# Altium footprint library MOLEX_43650-0600.PcbLib: 1 footprints
Each footprint in its own frame and in the unit in brackets; x right, y up, seen from the top. Pads: shape width x height; smd on the part's side, far side on the other; paste and mask are expansions set on the pad; w line width, h text height; cw(c..) or ccw(c..) is an arc to the next point about the centre after c.
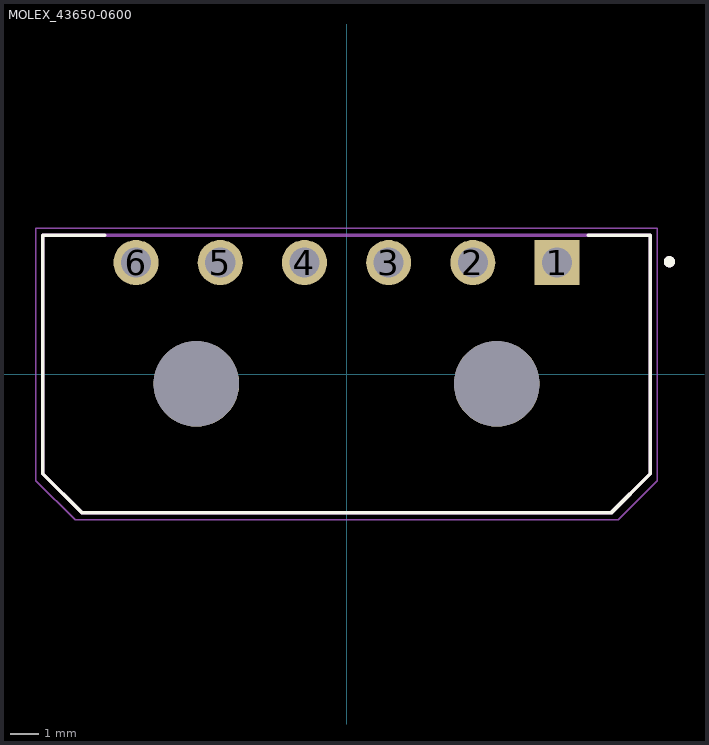
[diagram p0: the footprint, top view; thin cyan lines are the x and y axes]

## MOLEX_43650-0600 [mm]
pads (8):
  rect 1.605x1.605 hole 1.07: 1(7.5,3.97)
  round 1.605 hole 1.07: 2(4.5,3.97) 3(1.5,3.97) 4(-1.5,3.97) 5(-4.5,3.97) 6(-7.5,3.97)
  round 3.05 hole 3.05 unplated: ""(-5.35,-0.35) ""(5.35,-0.35)
Top Overlay:
  circle w0.2: c11.5,4 r0.1
  lines w0.127: -8.62,4.95 -10.82,4.95 -10.82,-3.55 -9.42,-4.95 9.42,-4.95 10.82,-3.55 10.82,4.95 8.62,4.95
Mechanical 13:
  circle w0.2: c11.5,4 r0.1
  lines w0.127: -10.82,-3.55 -10.82,4.95 10.82,4.95 10.82,-3.55 9.42,-4.95 -9.42,-4.95 -10.82,-3.55
Mechanical 15:
  lines w0.05: -11.07,-3.8 -11.07,5.2 11.07,5.2 11.07,-3.8 9.67,-5.2 -9.67,-5.2 -11.07,-3.8
3D body "436500600--3DModel-STEP-390490.STEP": height 5.6, standoff -3.3, extent -10.82,-4.95 10.82,4.95